# Altium footprint library AMP Footprints.PcbLib: 903 footprints (part 24 of 58)
Each footprint in its own frame and in the unit in brackets; x right, y up, seen from the top. Pads: shape width x height; smd on the part's side, far side on the other; paste and mask are expansions set on the pad; w line width, h text height; cw(c..) or ccw(c..) is an arc to the next point about the centre after c.
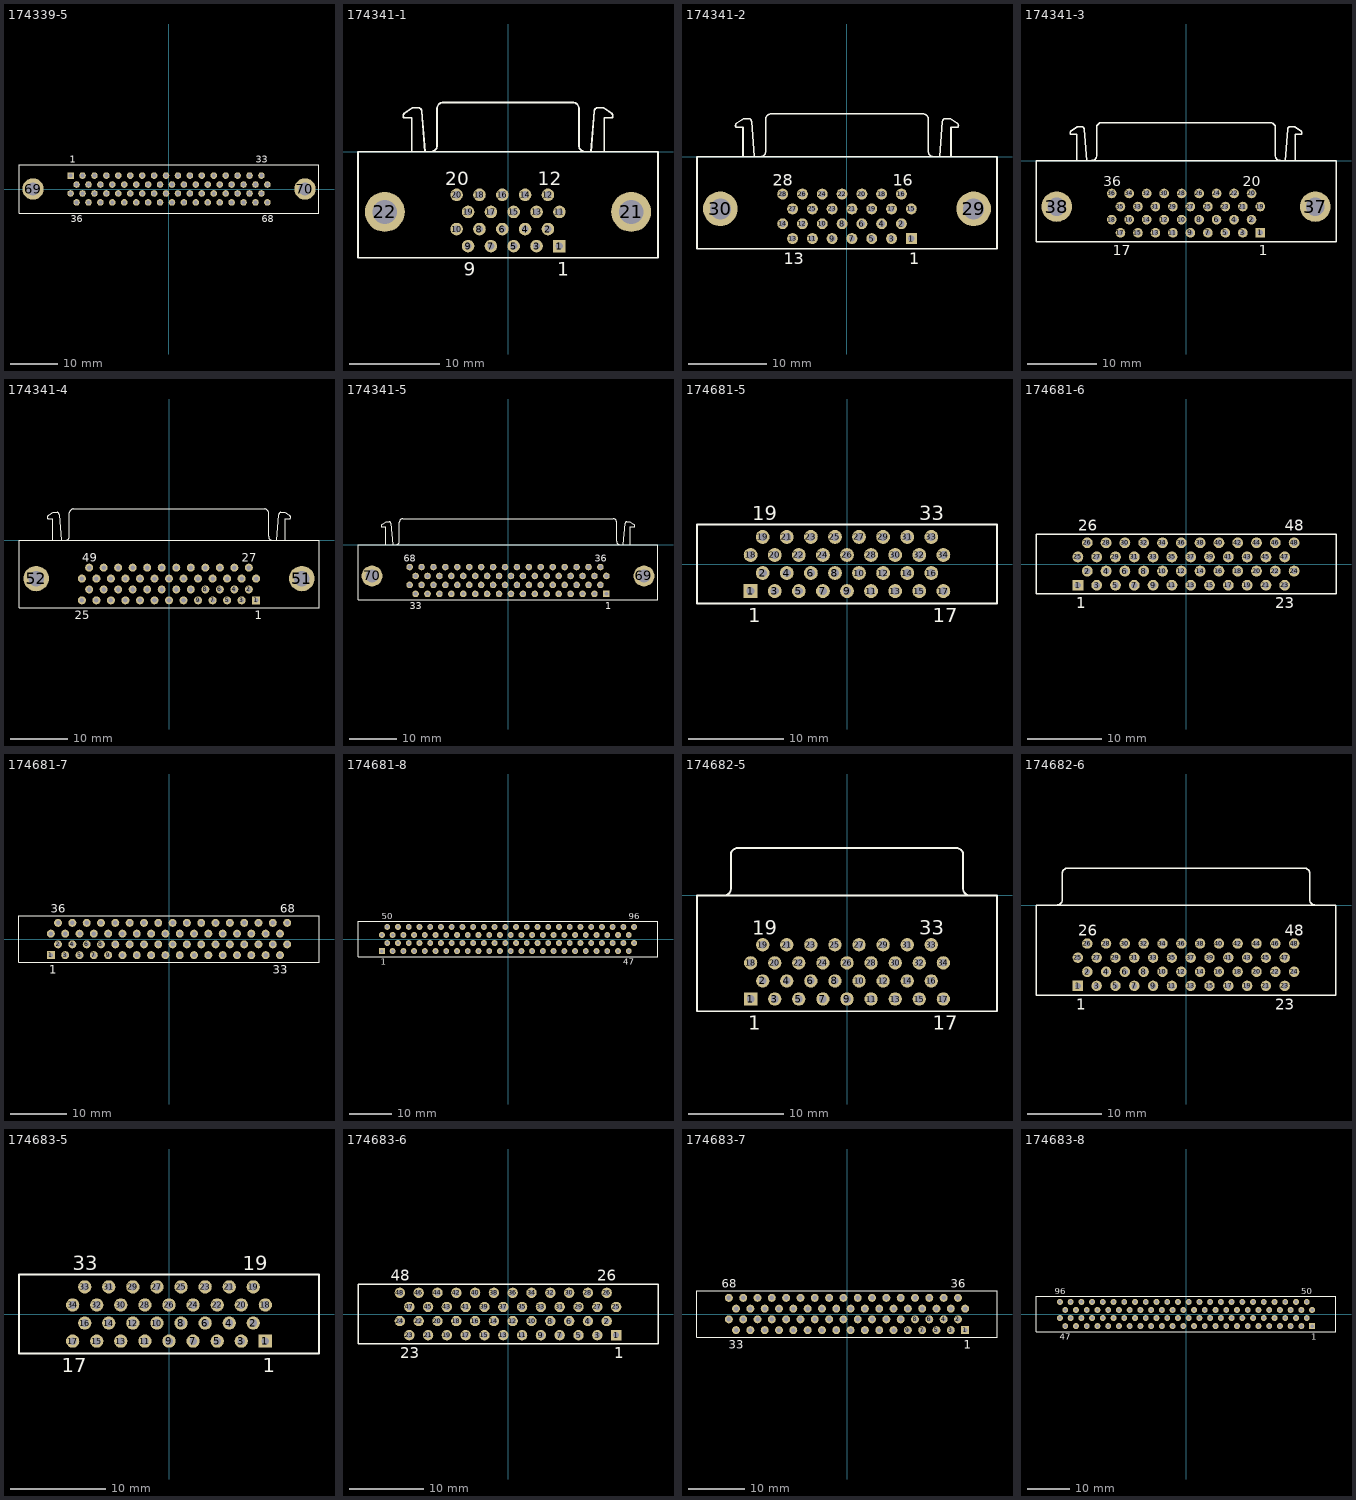
[diagram p23: the footprints below, top view; thin cyan lines are the x and y axes]

## 174339-5 [mm] "Connector; D Subminiature 050 Series; 68 Position; Vertical"
height 9.5
pads (70):
  rect 1.4x1.4 hole 0.8: 1(-20.955,2.857)
  round 1.4 hole 0.8: 2(-19.685,0.953) 3(-18.415,2.857) 4(-17.145,0.953) 5(-15.875,2.857) 6(-14.605,0.953) 7(-13.335,2.857) 8(-12.065,0.953) 9(-10.795,2.857) 10(-9.525,0.953) 11(-8.255,2.857) 12(-6.985,0.953) 13(-5.715,2.857) 14(-4.445,0.953) 15(-3.175,2.857) 16(-1.905,0.953) 17(-0.635,2.857) 18(0.635,0.953) 19(1.905,2.857) 20(3.175,0.953) 21(4.445,2.857) 22(5.715,0.953) 23(6.985,2.857) 24(8.255,0.953) 25(9.525,2.857) 26(10.795,0.953) 27(12.065,2.857) 28(13.335,0.953) 29(14.605,2.857) 30(15.875,0.953) 31(17.145,2.857) 32(18.415,0.953) 33(19.685,2.857) 34(20.955,0.953) 35(-20.955,-0.953) 36(-19.685,-2.857) 37(-18.415,-0.953) 38(-17.145,-2.857) 39(-15.875,-0.953) 40(-14.605,-2.857) 41(-13.335,-0.953) 42(-12.065,-2.857) 43(-10.795,-0.953) 44(-9.525,-2.857) 45(-8.255,-0.953) 46(-6.985,-2.857) 47(-5.715,-0.953) 48(-4.445,-2.857) 49(-3.175,-0.953) 50(-1.905,-2.857) 51(-0.635,-0.953) 52(0.635,-2.857) 53(1.905,-0.953) 54(3.175,-2.857) 55(4.445,-0.953) 56(5.715,-2.857) 57(6.985,-0.953) 58(8.255,-2.857) 59(9.525,-0.953) 60(10.795,-2.857) 61(12.065,-0.953) 62(13.335,-2.857) 63(14.605,-0.953) 64(15.875,-2.857) 65(17.145,-0.953) 66(18.415,-2.857) 67(19.685,-0.953) 68(20.955,-2.857)
  round 4.55 hole 2.77: 69(-28.955,0) 70(28.955,0)
Top Overlay:
  lines w0.2: -31.94,-5.155 -31.94,5.155 31.94,5.155 31.94,-5.155 -31.94,-5.155
  text "36" at -20.935,-7.13 h1.5
  text "68" at 19.705,-7.13 h1.5
  text "1" at -21.154,5.63 h1.5
  text "33" at 18.435,5.63 h1.5

## 174341-1 [mm] "Connector; D Subminiature 050 Series; 20 Position; Right Angle"
height 10.55
pads (22):
  rect 1.4x1.4 hole 0.8: 1(5.715,-10.5)
  round 1.4 hole 0.8: 2(4.445,-8.595) 3(3.175,-10.5) 4(1.905,-8.595) 5(0.635,-10.5) 6(-0.635,-8.595) 7(-1.905,-10.5) 8(-3.175,-8.595) 9(-4.445,-10.5) 10(-5.715,-8.595) 11(5.715,-6.69) 12(4.445,-4.785) 13(3.175,-6.69) 14(1.905,-4.785) 15(0.635,-6.69) 16(-0.635,-4.785) 17(-1.905,-6.69) 18(-3.175,-4.785) 19(-4.445,-6.69) 20(-5.715,-4.785)
  round 4.45 hole 2.7: 21(13.715,-6.69) 22(-13.715,-6.69)
Top Overlay:
  lines w0.2: -11.575,4.27 -10.635,4.898 -9.913,4.898 cw(c-10.015,4.5) -9.605,4.5 ; -11.561,4.255 ccw(c-11.335,4.01) -11.585,3.79 -10.705,3.79 -10.705,0 ; -9.605,4.52 -9.235,0 ; -8.595,0.005 ccw(c-8.595,0.7) -7.9,0.7 -7.9,4.805 cw(c-7.205,4.805) -7.205,5.5 7.205,5.5 cw(c7.205,4.805) 7.9,4.805 7.9,0.7 ccw(c8.595,0.7) 8.595,0.005 ; 9.235,0 9.605,4.52 ; 9.605,4.5 cw(c10.015,4.5) 9.913,4.898 10.635,4.898 11.575,4.27 ; 10.705,0 10.705,3.79 11.585,3.79 ccw(c11.335,4.01) 11.561,4.255 ; -16.7,-11.8 -16.7,0 16.7,0 16.7,-11.8 -16.7,-11.8
  text "20" at -6.965,-3.71 h1.5
  text "12" at 3.32,-3.71 h1.5
  text "9" at -4.945,-13.775 h1.5
  text "1" at 5.465,-13.775 h1.5

## 174341-2 [mm] "Connector; D Subminiature 050 Series; 28 Position; Right Angle"
height 10.55
pads (30):
  rect 1.4x1.4 hole 0.8: 1(8.255,-10.5)
  round 1.4 hole 0.8: 2(6.985,-8.595) 3(5.715,-10.5) 4(4.445,-8.595) 5(3.175,-10.5) 6(1.905,-8.595) 7(0.635,-10.5) 8(-0.635,-8.595) 9(-1.905,-10.5) 10(-3.175,-8.595) 11(-4.445,-10.5) 12(-5.715,-8.595) 13(-6.985,-10.5) 14(-8.255,-8.595) 15(8.255,-6.69) 16(6.985,-4.785) 17(5.715,-6.69) 18(4.445,-4.785) 19(3.175,-6.69) 20(1.905,-4.785) 21(0.635,-6.69) 22(-0.635,-4.785) 23(-1.905,-6.69) 24(-3.175,-4.785) 25(-4.445,-6.69) 26(-5.715,-4.785) 27(-6.985,-6.69) 28(-8.255,-4.785)
  round 4.45 hole 2.7: 29(16.255,-6.69) 30(-16.255,-6.69)
Top Overlay:
  lines w0.2: -14.22,4.27 -13.28,4.898 -12.558,4.898 cw(c-12.66,4.5) -12.25,4.5 ; -14.206,4.255 ccw(c-13.98,4.01) -14.23,3.79 -13.35,3.79 -13.35,0 ; -12.25,4.52 -11.88,0 ; -11.135,0.005 ccw(c-11.135,0.7) -10.44,0.7 -10.44,4.805 cw(c-9.745,4.805) -9.745,5.5 9.745,5.5 cw(c9.745,4.805) 10.44,4.805 10.44,0.7 ccw(c11.135,0.7) 11.135,0.005 ; 11.875,0 12.245,4.52 ; 12.245,4.5 cw(c12.655,4.5) 12.553,4.898 13.275,4.898 14.215,4.27 ; 13.345,0 13.345,3.79 14.225,3.79 ccw(c13.975,4.01) 14.201,4.255 ; -19.25,-11.8 -19.25,0 19.25,0 19.25,-11.8 -19.25,-11.8
  text "16" at 5.86,-3.71 h1.5
  text "28" at -9.505,-3.71 h1.5
  text "1" at 8.005,-13.775 h1.5
  text "13" at -8.11,-13.775 h1.5

## 174341-3 [mm] "Connector; D Subminiature 050 Series; 36 Position; Right Angle"
height 10.55
pads (38):
  rect 1.4x1.4 hole 0.8: 1(10.795,-10.5)
  round 1.4 hole 0.8: 2(9.525,-8.595) 3(8.255,-10.5) 4(6.985,-8.595) 5(5.715,-10.5) 6(4.445,-8.595) 7(3.175,-10.5) 8(1.905,-8.595) 9(0.635,-10.5) 10(-0.635,-8.595) 11(-1.905,-10.5) 12(-3.175,-8.595) 13(-4.445,-10.5) 14(-5.715,-8.595) 15(-6.985,-10.5) 16(-8.255,-8.595) 17(-9.525,-10.5) 18(-10.795,-8.595) 19(10.795,-6.69) 20(9.525,-4.785) 21(8.255,-6.69) 22(6.985,-4.785) 23(5.715,-6.69) 24(4.445,-4.785) 25(3.175,-6.69) 26(1.905,-4.785) 27(0.635,-6.69) 28(-0.635,-4.785) 29(-1.905,-6.69) 30(-3.175,-4.785) 31(-4.445,-6.69) 32(-5.715,-4.785) 33(-6.985,-6.69) 34(-8.255,-4.785) 35(-9.525,-6.69) 36(-10.795,-4.785)
  round 4.45 hole 2.7: 37(18.795,-6.69) 38(-18.795,-6.69)
Top Overlay:
  lines w0.2: -16.755,4.27 -15.815,4.898 -15.093,4.898 cw(c-15.195,4.5) -14.785,4.5 ; -16.741,4.255 ccw(c-16.515,4.01) -16.765,3.79 -15.885,3.79 -15.885,0 ; -14.785,4.52 -14.415,0 ; -13.675,0.015 ccw(c-13.675,0.71) -12.98,0.71 -12.98,4.805 cw(c-12.285,4.805) -12.285,5.5 ; -12.275,5.5 12.275,5.5 cw(c12.275,4.805) 12.97,4.805 ; 12.98,4.805 12.98,0.71 ccw(c13.675,0.71) 13.675,0.015 ; 14.405,0 14.775,4.52 ; 14.775,4.5 cw(c15.185,4.5) 15.083,4.898 15.805,4.898 16.745,4.27 ; 15.875,0 15.875,3.79 16.755,3.79 ccw(c16.505,4.01) 16.731,4.255 ; -21.8,-11.8 -21.8,0 21.8,0 21.8,-11.8 -21.8,-11.8
  text "36" at -12.045,-3.71 h1.5
  text "20" at 8.275,-3.71 h1.5
  text "17" at -10.65,-13.775 h1.5
  text "1" at 10.545,-13.775 h1.5

## 174341-4 [mm] "Connector; D Subminiature 050 Series; 50 Position; Right Angle"
height 10.55
pads (52):
  rect 1.4x1.4 hole 0.8: 1(15.24,-10.5)
  round 1.4 hole 0.8: 2(13.97,-8.595) 3(12.7,-10.5) 4(11.43,-8.595) 5(10.16,-10.5) 6(8.89,-8.595) 7(7.62,-10.5) 8(6.35,-8.595) 9(5.08,-10.5) 10(3.81,-8.595) 11(2.54,-10.5) 12(1.27,-8.595) 13(0,-10.5) 14(-1.27,-8.595) 15(-2.54,-10.5) 16(-3.81,-8.595) 17(-5.08,-10.5) 18(-6.35,-8.595) 19(-7.62,-10.5) 20(-8.89,-8.595) 21(-10.16,-10.5) 22(-11.43,-8.595) 23(-12.7,-10.5) 24(-13.97,-8.595) 25(-15.24,-10.5) 26(15.24,-6.69) 27(13.97,-4.785) 28(12.7,-6.69) 29(11.43,-4.785) 30(10.16,-6.69) 31(8.89,-4.785) 32(7.62,-6.69) 33(6.35,-4.785) 34(5.08,-6.69) 35(3.81,-4.785) 36(2.54,-6.69) 37(1.27,-4.785) 38(0,-6.69) 39(-1.27,-4.785) 40(-2.54,-6.69) 41(-3.81,-4.785) 42(-5.08,-6.69) 43(-6.35,-4.785) 44(-7.62,-6.69) 45(-8.89,-4.785) 46(-10.16,-6.69) 47(-11.43,-4.785) 48(-12.7,-6.69) 49(-13.97,-4.785) 50(-15.24,-6.69)
  round 4.45 hole 2.7: 51(23.24,-6.69) 52(-23.24,-6.69)
Top Overlay:
  lines w0.2: -21.21,4.27 -20.27,4.898 -19.548,4.898 cw(c-19.65,4.5) -19.24,4.5 ; -21.196,4.255 ccw(c-20.97,4.01) -21.22,3.79 -20.34,3.79 -20.34,0 ; -19.24,4.52 -18.87,0 ; -18.13,0.005 ccw(c-18.13,0.7) -17.435,0.7 -17.435,4.805 ; -17.425,4.805 cw(c-16.73,4.805) -16.73,5.5 16.73,5.5 cw(c16.73,4.805) 17.425,4.805 ; 17.415,4.805 17.415,0.7 ccw(c18.11,0.7) 18.11,0.005 ; 18.85,0 19.22,4.52 ; 19.22,4.5 cw(c19.63,4.5) 19.528,4.898 20.25,4.898 21.19,4.27 ; 20.32,0 20.32,3.79 21.2,3.79 ccw(c20.95,4.01) 21.176,4.255 ; -26.25,-11.8 -26.25,0 26.25,0 26.25,-11.8 -26.25,-11.8
  text "25" at -16.49,-13.775 h1.5
  text "27" at 12.72,-3.71 h1.5
  text "1" at 14.99,-13.775 h1.5
  text "49" at -15.22,-3.71 h1.5

## 174341-5 [mm] "Connector; D Subminiature 050 Series; 68 Position; Right Angle"
height 10.55
pads (70):
  rect 1.4x1.4 hole 0.8: 1(20.955,-10.5)
  round 1.4 hole 0.8: 2(19.685,-8.595) 3(18.415,-10.5) 4(17.145,-8.595) 5(15.875,-10.5) 6(14.605,-8.595) 7(13.335,-10.5) 8(12.065,-8.595) 9(10.795,-10.5) 10(9.525,-8.595) 11(8.255,-10.5) 12(6.985,-8.595) 13(5.715,-10.5) 14(4.445,-8.595) 15(3.175,-10.5) 16(1.905,-8.595) 17(0.635,-10.5) 18(-0.635,-8.595) 19(-1.905,-10.5) 20(-3.175,-8.595) 21(-4.445,-10.5) 22(-5.715,-8.595) 23(-6.985,-10.5) 24(-8.255,-8.595) 25(-9.525,-10.5) 26(-10.795,-8.595) 27(-12.065,-10.5) 28(-13.335,-8.595) 29(-14.605,-10.5) 30(-15.875,-8.595) 31(-17.145,-10.5) 32(-18.415,-8.595) 33(-19.685,-10.5) 34(-20.955,-8.595) 35(20.955,-6.69) 36(19.685,-4.785) 37(18.415,-6.69) 38(17.145,-4.785) 39(15.875,-6.69) 40(14.605,-4.785) 41(13.335,-6.69) 42(12.065,-4.785) 43(10.795,-6.69) 44(9.525,-4.785) 45(8.255,-6.69) 46(6.985,-4.785) 47(5.715,-6.69) 48(4.445,-4.785) 49(3.175,-6.69) 50(1.905,-4.785) 51(0.635,-6.69) 52(-0.635,-4.785) 53(-1.905,-6.69) 54(-3.175,-4.785) 55(-4.445,-6.69) 56(-5.715,-4.785) 57(-6.985,-6.69) 58(-8.255,-4.785) 59(-9.525,-6.69) 60(-10.795,-4.785) 61(-12.065,-6.69) 62(-13.335,-4.785) 63(-14.605,-6.69) 64(-15.875,-4.785) 65(-17.145,-6.69) 66(-18.415,-4.785) 67(-19.685,-6.69) 68(-20.955,-4.785)
  round 4.45 hole 2.7: 69(28.955,-6.69) 70(-28.955,-6.69)
Top Overlay:
  lines w0.2: -26.915,4.27 -25.975,4.898 -25.253,4.898 cw(c-25.355,4.5) -24.945,4.5 ; -26.901,4.255 ccw(c-26.675,4.01) -26.925,3.79 -26.045,3.79 -26.045,0 ; -24.945,4.52 -24.575,0 ; -23.835,0.005 ccw(c-23.835,0.7) -23.14,0.7 -23.14,4.805 cw(c-22.445,4.805) -22.445,5.5 22.445,5.5 cw(c22.445,4.805) 23.14,4.805 23.14,0.7 ccw(c23.835,0.7) 23.835,0.005 ; 24.575,0 24.945,4.52 ; 24.945,4.5 cw(c25.355,4.5) 25.253,4.898 25.975,4.898 26.915,4.27 ; 26.045,0 26.045,3.79 26.925,3.79 ccw(c26.675,4.01) 26.901,4.255 ; -31.95,-11.8 31.95,-11.8 31.95,0 -31.95,0 -31.95,-11.8
  text "36" at 18.435,-3.71 h1.5
  text "68" at -22.205,-3.71 h1.5
  text "33" at -20.935,-13.775 h1.5
  text "1" at 20.705,-13.775 h1.5

## 174681-5 [mm] "Connector; D Subminiature 050 Series; 34 Position; Vertical"
height 7.9
pads (34):
  rect 1.46x1.46 hole 0.86: 1(-10.16,-2.857)
  round 1.46 hole 0.86: 2(-8.89,-0.953) 3(-7.62,-2.857) 4(-6.35,-0.953) 5(-5.08,-2.857) 6(-3.81,-0.953) 7(-2.54,-2.857) 8(-1.27,-0.953) 9(0,-2.857) 10(1.27,-0.953) 11(2.54,-2.857) 12(3.81,-0.953) 13(5.08,-2.857) 14(6.35,-0.953) 15(7.62,-2.857) 16(8.89,-0.953) 17(10.16,-2.857) 18(-10.16,0.953) 19(-8.89,2.857) 20(-7.62,0.953) 21(-6.35,2.857) 22(-5.08,0.953) 23(-3.81,2.857) 24(-2.54,0.953) 25(-1.27,2.857) 26(0,0.953) 27(1.27,2.857) 28(2.54,0.953) 29(3.81,2.857) 30(5.08,0.953) 31(6.35,2.857) 32(7.62,0.953) 33(8.89,2.857) 34(10.16,0.953)
Top Overlay:
  lines w0.2: -15.815,-4.157 15.815,-4.157 15.815,4.157 -15.815,4.157 -15.815,-4.157
  text "1" at -10.41,-6.132 h1.5
  text "17" at 9.035,-6.132 h1.5
  text "19" at -10.015,4.633 h1.5
  text "33" at 7.64,4.633 h1.5

## 174681-6 [mm] "Connector; D Subminiature 050 Series; 48 Position; Vertical"
height 7.9
pads (48):
  rect 1.46x1.46 hole 0.86: 1(-14.605,-2.857)
  round 1.46 hole 0.86: 2(-13.335,-0.953) 3(-12.065,-2.857) 4(-10.795,-0.953) 5(-9.525,-2.857) 6(-8.255,-0.953) 7(-6.985,-2.857) 8(-5.715,-0.953) 9(-4.445,-2.857) 10(-3.175,-0.953) 11(-1.905,-2.857) 12(-0.635,-0.953) 13(0.635,-2.857) 14(1.905,-0.953) 15(3.175,-2.857) 16(4.445,-0.953) 17(5.715,-2.857) 18(6.985,-0.953) 19(8.255,-2.857) 20(9.525,-0.953) 21(10.795,-2.857) 22(12.065,-0.953) 23(13.335,-2.857) 24(14.605,-0.953) 25(-14.605,0.953) 26(-13.335,2.857) 27(-12.065,0.953) 28(-10.795,2.857) 29(-9.525,0.953) 30(-8.255,2.857) 31(-6.985,0.953) 32(-5.715,2.857) 33(-4.445,0.953) 34(-3.175,2.857) 35(-1.905,0.953) 36(-0.635,2.857) 37(0.635,0.953) 38(1.905,2.857) 39(3.175,0.953) 40(4.445,2.857) 41(5.715,0.953) 42(6.985,2.857) 43(8.255,0.953) 44(9.525,2.857) 45(10.795,0.953) 46(12.065,2.857) 47(13.335,0.953) 48(14.605,2.857)
Top Overlay:
  lines w0.2: -20.26,-4 20.26,-4 20.26,4 -20.26,4 -20.26,-4
  text "48" at 13.355,4.475 h1.5
  text "26" at -14.585,4.475 h1.5
  text "23" at 12.085,-5.975 h1.5
  text "1" at -14.855,-5.975 h1.5

## 174681-7 [mm] "Connector; D Subminiature 050 Series; 68 Position; Vertical"
height 7.9
pads (68):
  rect 1.4x1.4 hole 0.8: 1(-20.955,-2.857)
  round 1.4 hole 0.8: 2(-19.685,-0.953) 3(-18.415,-2.857) 4(-17.145,-0.953) 5(-15.875,-2.857) 6(-14.605,-0.953) 7(-13.335,-2.857) 8(-12.065,-0.953) 9(-10.795,-2.857) 10(-9.525,-0.953) 11(-8.255,-2.857) 12(-6.985,-0.953) 13(-5.715,-2.857) 14(-4.445,-0.953) 15(-3.175,-2.857) 16(-1.905,-0.953) 17(-0.635,-2.857) 18(0.635,-0.953) 19(1.905,-2.857) 20(3.175,-0.953) 21(4.445,-2.857) 22(5.715,-0.953) 23(6.985,-2.857) 24(8.255,-0.953) 25(9.525,-2.857) 26(10.795,-0.953) 27(12.065,-2.857) 28(13.335,-0.953) 29(14.605,-2.857) 30(15.875,-0.953) 31(17.145,-2.857) 32(18.415,-0.953) 33(19.685,-2.857) 34(20.955,-0.953) 35(-20.955,0.953) 36(-19.685,2.857) 37(-18.415,0.953) 38(-17.145,2.857) 39(-15.875,0.953) 40(-14.605,2.857) 41(-13.335,0.953) 42(-12.065,2.857) 43(-10.795,0.953) 44(-9.525,2.857) 45(-8.255,0.953) 46(-6.985,2.857) 47(-5.715,0.953) 48(-4.445,2.857) 49(-3.175,0.953) 50(-1.905,2.857) 51(-0.635,0.953) 52(0.635,2.857) 53(1.905,0.953) 54(3.175,2.857) 55(4.445,0.953) 56(5.715,2.857) 57(6.985,0.953) 58(8.255,2.857) 59(9.525,0.953) 60(10.795,2.857) 61(12.065,0.953) 62(13.335,2.857) 63(14.605,0.953) 64(15.875,2.857) 65(17.145,0.953) 66(18.415,2.857) 67(19.685,0.953) 68(20.955,2.857)
Top Overlay:
  lines w0.2: -26.61,-4.157 26.61,-4.157 26.61,4.157 -26.61,4.157 -26.61,-4.157
  text "1" at -21.205,-6.132 h1.5
  text "33" at 18.435,-6.132 h1.5
  text "36" at -20.935,4.633 h1.5
  text "68" at 19.705,4.633 h1.5

## 174681-8 [mm] "Connector; D Subminiature 050 Series; 96 Position; Vertical"
height 7.9
pads (96):
  rect 1.4x1.4 hole 0.8: 1(-29.845,-2.857)
  round 1.4 hole 0.8: 2(-28.575,-0.953) 3(-27.305,-2.857) 4(-26.035,-0.953) 5(-24.765,-2.857) 6(-23.495,-0.953) 7(-22.225,-2.857) 8(-20.955,-0.953) 9(-19.685,-2.857) 10(-18.415,-0.953) 11(-17.145,-2.857) 12(-15.875,-0.953) 13(-14.605,-2.857) 14(-13.335,-0.953) 15(-12.065,-2.857) 16(-10.795,-0.953) 17(-9.525,-2.857) 18(-8.255,-0.953) 19(-6.985,-2.857) 20(-5.715,-0.953) 21(-4.445,-2.857) 22(-3.175,-0.953) 23(-1.905,-2.857) 24(-0.635,-0.953) 25(0.635,-2.857) 26(1.905,-0.953) 27(3.175,-2.857) 28(4.445,-0.953) 29(5.715,-2.857) 30(6.985,-0.953) 31(8.255,-2.857) 32(9.525,-0.953) 33(10.795,-2.857) 34(12.065,-0.953) 35(13.335,-2.857) 36(14.605,-0.953) 37(15.875,-2.857) 38(17.145,-0.953) 39(18.415,-2.857) 40(19.685,-0.953) 41(20.955,-2.857) 42(22.225,-0.953) 43(23.495,-2.857) 44(24.765,-0.953) 45(26.035,-2.857) 46(27.305,-0.953) 47(28.575,-2.857) 48(29.845,-0.953) 49(-29.845,0.953) 50(-28.575,2.857) 51(-27.305,0.953) 52(-26.035,2.857) 53(-24.765,0.953) 54(-23.495,2.857) 55(-22.225,0.953) 56(-20.955,2.857) 57(-19.685,0.953) 58(-18.415,2.857) 59(-17.145,0.953) 60(-15.875,2.857) 61(-14.605,0.953) 62(-13.335,2.857) 63(-12.065,0.953) 64(-10.795,2.857) 65(-9.525,0.953) 66(-8.255,2.857) 67(-6.985,0.953) 68(-5.715,2.857) 69(-4.445,0.953) 70(-3.175,2.857) 71(-1.905,0.953) 72(-0.635,2.857) 73(0.635,0.953) 74(1.905,2.857) 75(3.175,0.953) 76(4.445,2.857) 77(5.715,0.953) 78(6.985,2.857) 79(8.255,0.953) 80(9.525,2.857) 81(10.795,0.953) 82(12.065,2.857) 83(13.335,0.953) 84(14.605,2.857) 85(15.875,0.953) 86(17.145,2.857) 87(18.415,0.953) 88(19.685,2.857) 89(20.955,0.953) 90(22.225,2.857) 91(23.495,0.953) 92(24.765,2.857) 93(26.035,0.953) 94(27.305,2.857) 95(28.575,0.953) 96(29.845,2.857)
Top Overlay:
  lines w0.2: -35.5,-4.157 35.5,-4.157 35.5,4.157 -35.5,4.157 -35.5,-4.157
  text "47" at 27.325,-6.132 h1.5
  text "50" at -29.825,4.633 h1.5
  text "96" at 28.595,4.633 h1.5
  text "1" at -30.095,-6.132 h1.5

## 174682-5 [mm] "Connector; D Subminiature 050 Series; 34 Position; Right Angle"
height 7.5
pads (34):
  rect 1.4x1.4 hole 0.8: 1(-10.16,-10.915)
  round 1.4 hole 0.8: 2(-8.89,-9.01) 3(-7.62,-10.915) 4(-6.35,-9.01) 5(-5.08,-10.915) 6(-3.81,-9.01) 7(-2.54,-10.915) 8(-1.27,-9.01) 9(0,-10.915) 10(1.27,-9.01) 11(2.54,-10.915) 12(3.81,-9.01) 13(5.08,-10.915) 14(6.35,-9.01) 15(7.62,-10.915) 16(8.89,-9.01) 17(10.16,-10.915) 18(-10.16,-7.105) 19(-8.89,-5.2) 20(-7.62,-7.105) 21(-6.35,-5.2) 22(-5.08,-7.105) 23(-3.81,-5.2) 24(-2.54,-7.105) 25(-1.27,-5.2) 26(0,-7.105) 27(1.27,-5.2) 28(2.54,-7.105) 29(3.81,-5.2) 30(5.08,-7.105) 31(6.35,-5.2) 32(7.62,-7.105) 33(8.89,-5.2) 34(10.16,-7.105)
Top Overlay:
  lines w0.2: -12.94,0.005 ccw(c-12.94,0.7) -12.245,0.7 -12.245,4.3 cw(c-11.55,4.3) -11.55,4.995 ; -11.55,5 11.55,5 cw(c11.55,4.305) 12.245,4.305 12.245,0.705 ccw(c12.94,0.705) 12.94,0.01 ; -15.815,-12.2 15.815,-12.2 15.815,0 -15.815,0 -15.815,-12.2
  text "1" at -10.41,-14.175 h1.5
  text "17" at 9.035,-14.175 h1.5
  text "33" at 7.64,-4.125 h1.5
  text "19" at -10.015,-4.125 h1.5

## 174682-6 [mm] "Connector; D Subminiature 050 Series; 48 Position; Right Angle"
height 7.5
pads (48):
  rect 1.4x1.4 hole 0.8: 1(-14.605,-10.915)
  round 1.4 hole 0.8: 2(-13.335,-9.01) 3(-12.065,-10.915) 4(-10.795,-9.01) 5(-9.525,-10.915) 6(-8.255,-9.01) 7(-6.985,-10.915) 8(-5.715,-9.01) 9(-4.445,-10.915) 10(-3.175,-9.01) 11(-1.905,-10.915) 12(-0.635,-9.01) 13(0.635,-10.915) 14(1.905,-9.01) 15(3.175,-10.915) 16(4.445,-9.01) 17(5.715,-10.915) 18(6.985,-9.01) 19(8.255,-10.915) 20(9.525,-9.01) 21(10.795,-10.915) 22(12.065,-9.01) 23(13.335,-10.915) 24(14.605,-9.01) 25(-14.605,-7.105) 26(-13.335,-5.2) 27(-12.065,-7.105) 28(-10.795,-5.2) 29(-9.525,-7.105) 30(-8.255,-5.2) 31(-6.985,-7.105) 32(-5.715,-5.2) 33(-4.445,-7.105) 34(-3.175,-5.2) 35(-1.905,-7.105) 36(-0.635,-5.2) 37(0.635,-7.105) 38(1.905,-5.2) 39(3.175,-7.105) 40(4.445,-5.2) 41(5.715,-7.105) 42(6.985,-5.2) 43(8.255,-7.105) 44(9.525,-5.2) 45(10.795,-7.105) 46(12.065,-5.2) 47(13.335,-7.105) 48(14.605,-5.2)
Top Overlay:
  lines w0.2: -17.385,0.015 ccw(c-17.385,0.71) -16.69,0.71 -16.69,4.3 cw(c-15.995,4.3) -15.995,4.995 ; -15.995,5 15.995,5 ; 15.995,4.995 cw(c15.995,4.3) 16.69,4.3 16.69,0.71 ccw(c17.385,0.71) 17.385,0.015 ; -20.26,-12.2 -20.26,0 20.26,0 20.26,-12.2 -20.26,-12.2
  text "1" at -14.855,-14.175 h1.5
  text "23" at 12.085,-14.175 h1.5
  text "26" at -14.585,-4.125 h1.5
  text "48" at 13.355,-4.125 h1.5

## 174683-5 [mm] "Connector; D Subminiature 050 Series; 34 Position; Vertical"
height 9.5
pads (34):
  rect 1.4x1.4 hole 0.8: 1(10.16,-2.857)
  round 1.4 hole 0.8: 2(8.89,-0.953) 3(7.62,-2.857) 4(6.35,-0.953) 5(5.08,-2.857) 6(3.81,-0.953) 7(2.54,-2.857) 8(1.27,-0.953) 9(0,-2.857) 10(-1.27,-0.953) 11(-2.54,-2.857) 12(-3.81,-0.953) 13(-5.08,-2.857) 14(-6.35,-0.953) 15(-7.62,-2.857) 16(-8.89,-0.953) 17(-10.16,-2.857) 18(10.16,0.953) 19(8.89,2.857) 20(7.62,0.953) 21(6.35,2.857) 22(5.08,0.953) 23(3.81,2.857) 24(2.54,0.953) 25(1.27,2.857) 26(0,0.953) 27(-1.27,2.857) 28(-2.54,0.953) 29(-3.81,2.857) 30(-5.08,0.953) 31(-6.35,2.857) 32(-7.62,0.953) 33(-8.89,2.857) 34(-10.16,0.953)
Top Overlay:
  lines w0.2: -15.815,-4.157 15.815,-4.157 15.815,4.157 -15.815,4.157 -15.815,-4.157
  text "1" at 9.91,-6.132 h1.5
  text "17" at -11.285,-6.132 h1.5
  text "33" at -10.14,4.633 h1.5
  text "19" at 7.765,4.633 h1.5

## 174683-6 [mm] "Connector; D Subminiature 050 Series; 48 Position; Vertical"
height 9.5
pads (48):
  rect 1.4x1.4 hole 0.8: 1(14.605,-2.857)
  round 1.4 hole 0.8: 2(13.335,-0.953) 3(12.065,-2.857) 4(10.795,-0.953) 5(9.525,-2.857) 6(8.255,-0.953) 7(6.985,-2.857) 8(5.715,-0.953) 9(4.445,-2.857) 10(3.175,-0.953) 11(1.905,-2.857) 12(0.635,-0.953) 13(-0.635,-2.857) 14(-1.905,-0.953) 15(-3.175,-2.857) 16(-4.445,-0.953) 17(-5.715,-2.857) 18(-6.985,-0.953) 19(-8.255,-2.857) 20(-9.525,-0.953) 21(-10.795,-2.857) 22(-12.065,-0.953) 23(-13.335,-2.857) 24(-14.605,-0.953) 25(14.605,0.953) 26(13.335,2.857) 27(12.065,0.953) 28(10.795,2.857) 29(9.525,0.953) 30(8.255,2.857) 31(6.985,0.953) 32(5.715,2.857) 33(4.445,0.953) 34(3.175,2.857) 35(1.905,0.953) 36(0.635,2.857) 37(-0.635,0.953) 38(-1.905,2.857) 39(-3.175,0.953) 40(-4.445,2.857) 41(-5.715,0.953) 42(-6.985,2.857) 43(-8.255,0.953) 44(-9.525,2.857) 45(-10.795,0.953) 46(-12.065,2.857) 47(-13.335,0.953) 48(-14.605,2.857)
Top Overlay:
  lines w0.2: -20.26,-4 -20.26,4 20.26,4 20.26,-4 -20.26,-4
  text "1" at 14.355,-5.975 h1.5
  text "23" at -14.585,-5.975 h1.5
  text "48" at -15.855,4.475 h1.5
  text "26" at 12.085,4.475 h1.5

## 174683-7 [mm] "Connector; D Subminiature 050 Series; 68 Position; Vertical"
height 9.5
pads (68):
  rect 1.4x1.4 hole 0.8: 1(20.955,-2.857)
  round 1.4 hole 0.8: 2(19.685,-0.953) 3(18.415,-2.857) 4(17.145,-0.953) 5(15.875,-2.857) 6(14.605,-0.953) 7(13.335,-2.857) 8(12.065,-0.953) 9(10.795,-2.857) 10(9.525,-0.953) 11(8.255,-2.857) 12(6.985,-0.953) 13(5.715,-2.857) 14(4.445,-0.953) 15(3.175,-2.857) 16(1.905,-0.953) 17(0.635,-2.857) 18(-0.635,-0.953) 19(-1.905,-2.857) 20(-3.175,-0.953) 21(-4.445,-2.857) 22(-5.715,-0.953) 23(-6.985,-2.857) 24(-8.255,-0.953) 25(-9.525,-2.857) 26(-10.795,-0.953) 27(-12.065,-2.857) 28(-13.335,-0.953) 29(-14.605,-2.857) 30(-15.875,-0.953) 31(-17.145,-2.857) 32(-18.415,-0.953) 33(-19.685,-2.857) 34(-20.955,-0.953) 35(20.955,0.953) 36(19.685,2.857) 37(18.415,0.953) 38(17.145,2.857) 39(15.875,0.953) 40(14.605,2.857) 41(13.335,0.953) 42(12.065,2.857) 43(10.795,0.953) 44(9.525,2.857) 45(8.255,0.953) 46(6.985,2.857) 47(5.715,0.953) 48(4.445,2.857) 49(3.175,0.953) 50(1.905,2.857) 51(0.635,0.953) 52(-0.635,2.857) 53(-1.905,0.953) 54(-3.175,2.857) 55(-4.445,0.953) 56(-5.715,2.857) 57(-6.985,0.953) 58(-8.255,2.857) 59(-9.525,0.953) 60(-10.795,2.857) 61(-12.065,0.953) 62(-13.335,2.857) 63(-14.605,0.953) 64(-15.875,2.857) 65(-17.145,0.953) 66(-18.415,2.857) 67(-19.685,0.953) 68(-20.955,2.857)
Top Overlay:
  lines w0.2: -26.61,-4.157 26.61,-4.157 26.61,4.157 -26.61,4.157 -26.61,-4.157
  text "1" at 20.705,-6.132 h1.5
  text "33" at -20.935,-6.132 h1.5
  text "68" at -22.205,4.633 h1.5
  text "36" at 18.435,4.633 h1.5

## 174683-8 [mm] "Connector; D Subminiature 050 Series; 96 Position; Vertical"
height 9.5
pads (96):
  rect 1.4x1.4 hole 0.8: 1(29.845,-2.857)
  round 1.4 hole 0.8: 2(28.575,-0.953) 3(27.305,-2.857) 4(26.035,-0.953) 5(24.765,-2.857) 6(23.495,-0.953) 7(22.225,-2.857) 8(20.955,-0.953) 9(19.685,-2.857) 10(18.415,-0.953) 11(17.145,-2.857) 12(15.875,-0.953) 13(14.605,-2.857) 14(13.335,-0.953) 15(12.065,-2.857) 16(10.795,-0.953) 17(9.525,-2.857) 18(8.255,-0.953) 19(6.985,-2.857) 20(5.715,-0.953) 21(4.445,-2.857) 22(3.175,-0.953) 23(1.905,-2.857) 24(0.635,-0.953) 25(-0.635,-2.857) 26(-1.905,-0.953) 27(-3.175,-2.857) 28(-4.445,-0.953) 29(-5.715,-2.857) 30(-6.985,-0.953) 31(-8.255,-2.857) 32(-9.525,-0.953) 33(-10.795,-2.857) 34(-12.065,-0.953) 35(-13.335,-2.857) 36(-14.605,-0.953) 37(-15.875,-2.857) 38(-17.145,-0.953) 39(-18.415,-2.857) 40(-19.685,-0.953) 41(-20.955,-2.857) 42(-22.225,-0.953) 43(-23.495,-2.857) 44(-24.765,-0.953) 45(-26.035,-2.857) 46(-27.305,-0.953) 47(-28.575,-2.857) 48(-29.845,-0.953) 49(29.845,0.953) 50(28.575,2.857) 51(27.305,0.953) 52(26.035,2.857) 53(24.765,0.953) 54(23.495,2.857) 55(22.225,0.953) 56(20.955,2.857) 57(19.685,0.953) 58(18.415,2.857) 59(17.145,0.953) 60(15.875,2.857) 61(14.605,0.953) 62(13.335,2.857) 63(12.065,0.953) 64(10.795,2.857) 65(9.525,0.953) 66(8.255,2.857) 67(6.985,0.953) 68(5.715,2.857) 69(4.445,0.953) 70(3.175,2.857) 71(1.905,0.953) 72(0.635,2.857) 73(-0.635,0.953) 74(-1.905,2.857) 75(-3.175,0.953) 76(-4.445,2.857) 77(-5.715,0.953) 78(-6.985,2.857) 79(-8.255,0.953) 80(-9.525,2.857) 81(-10.795,0.953) 82(-12.065,2.857) 83(-13.335,0.953) 84(-14.605,2.857) 85(-15.875,0.953) 86(-17.145,2.857) 87(-18.415,0.953) 88(-19.685,2.857) 89(-20.955,0.953) 90(-22.225,2.857) 91(-23.495,0.953) 92(-24.765,2.857) 93(-26.035,0.953) 94(-27.305,2.857) 95(-28.575,0.953) 96(-29.845,2.857)
Top Overlay:
  lines w0.2: -35.5,-4.157 -35.5,4.157 35.5,4.157 35.5,-4.157 -35.5,-4.157
  text "1" at 29.595,-6.132 h1.5
  text "47" at -29.825,-6.132 h1.5
  text "96" at -31.095,4.633 h1.5
  text "50" at 27.325,4.633 h1.5